# Altium footprint library BUCK_MODULEPcbLib.PcbLib: 1 footprints
Each footprint in its own frame and in the unit in brackets; x right, y up, seen from the top. Pads: shape width x height; smd on the part's side, far side on the other; paste and mask are expansions set on the pad; w line width, h text height; cw(c..) or ccw(c..) is an arc to the next point about the centre after c.
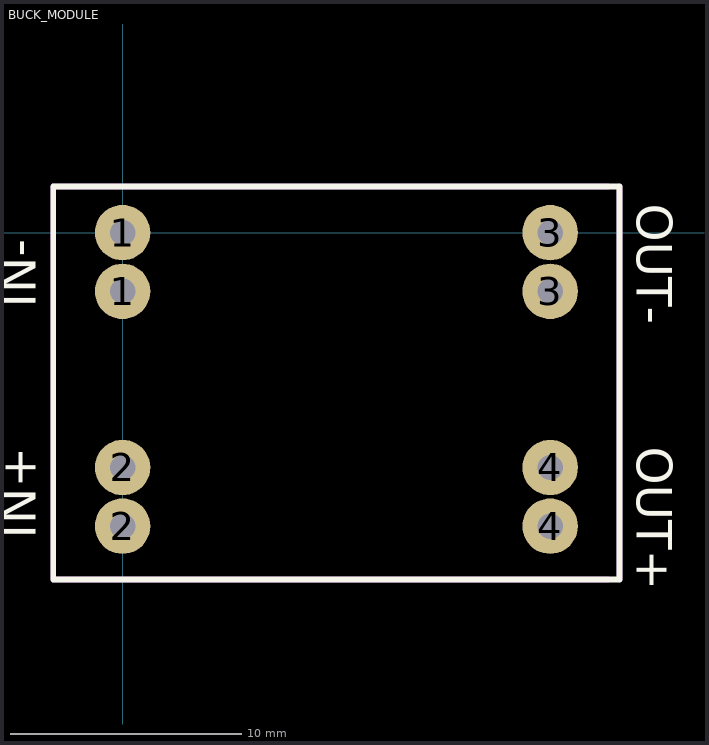
[diagram p0: the footprint, top view; thin cyan lines are the x and y axes]

## BUCK_MODULE [mm]
pads (8):
  round 2.4 hole 1.1: 1(0,-2.54) 1(0,0) 2(0,-12.7) 2(0,-10.16) 3(18.5,-2.54) 3(18.5,0) 4(18.5,-12.7) 4(18.5,-10.16)
Top Overlay:
  lines w0.254: -3,-15 21.5,-15 21.5,2 -3,2 -3,-15
  text "IN-" at -3.754,-3.246 h1.52
  text "IN+" at -3.754,-13.246 h1.52
  text "OUT+" at 22.254,-9.254 h1.52
  text "OUT-" at 22.254,1.246 h1.52
Mechanical 1:
  lines w0.254: 21,-15 -3,-15 -3,2 21,2 ; 21.5,-15 21.5,2